# EAGLE library part TPIC6A596N (library tpic)
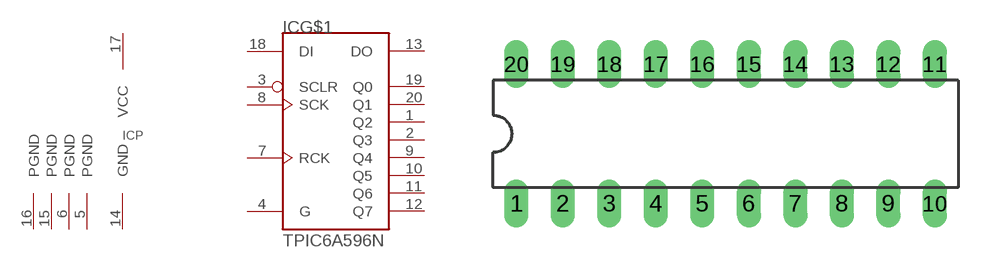
[diagram p3: symbol with the pads of DIL20; footprint DIL20]

Designator prefix IC; gates G$1=595-596 P=VCC-GND-AN

## TPIC6A596N  [DIL20]
1  G$1:Q2  oc
2  G$1:Q3  oc
3  G$1:SCLR  in
4  G$1:G  in
5  P:PGND  pwr
6  P:PGND  pwr
7  G$1:RCK  in
8  G$1:SCK  in
9  G$1:Q4  oc
10  G$1:Q5  oc
11  G$1:Q6  oc
12  G$1:Q7  oc
13  G$1:DO  out
14  P:GND  pwr
15  P:PGND  pwr
16  P:PGND  pwr
17  P:VCC  pwr
18  G$1:DI  in
19  G$1:Q0  oc
20  G$1:Q1  oc

## Footprint DIL20 (pad centres in mm)
Dual In Line Package
drill 0.813 long: 1 -11.43,-3.81; 2 -8.89,-3.81; 3 -6.35,-3.81; 4 -3.81,-3.81; 5 -1.27,-3.81; 6 1.27,-3.81; 7 3.81,-3.81; 8 6.35,-3.81; 9 8.89,-3.81; 10 11.43,-3.81; 11 11.43,3.81; 12 8.89,3.81; 13 6.35,3.81; 14 3.81,3.81; 15 1.27,3.81; 16 -1.27,3.81; 17 -3.81,3.81; 18 -6.35,3.81; 19 -8.89,3.81; 20 -11.43,3.81